# EAGLE library part AS-ITM-00114 (library tinycircuits)
2.45 GHz Impredance Matched Balun-Filter
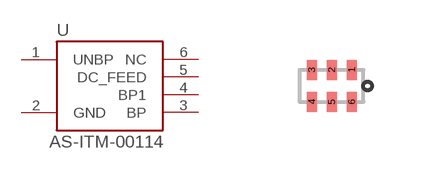
[diagram p46: symbol with the pads of 2450BM14A0002; footprint 2450BM14A0002]

Designator prefix U

## AS-ITM-00114 (PARTNO: AS-ITM-00114; VALUE: 2450BM14A0002)  [2450BM14A0002]
1  UNBP
2  GND
3  BP
4  BP1
5  DC_FEED
6  NC

## Footprint 2450BM14A0002 (pad centres in mm)
smd 0.25 x 0.5: 1 0.5,0.4; 2 0,0.4; 3 -0.5,0.4; 4 -0.5,-0.4; 5 0,-0.4; 6 0.5,-0.4